# EAGLE library part M06 (library custom-connectors)
6-Way Connector
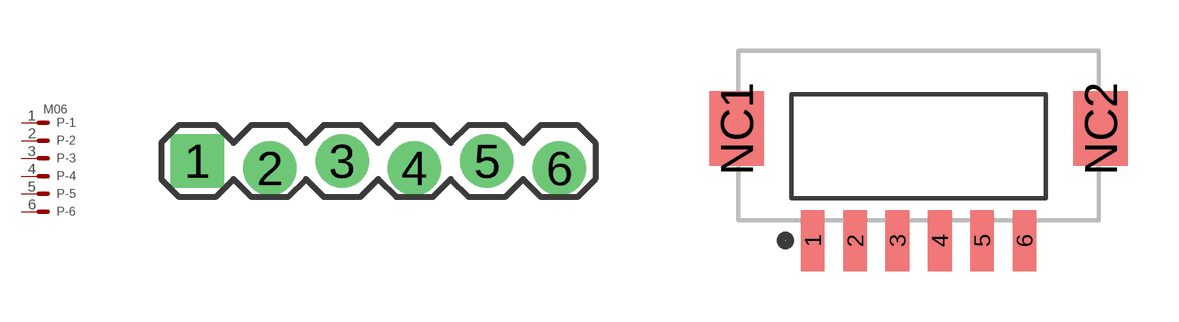
[diagram p3: symbol with the pads of 1X06_LOCK; footprints 1X06_LOCK, DF13A-6P-1.25H]

Designator prefix P; gates -1=MV -2=M -3=M -4=M -5=M -6=M

## M06_SIP  [1X06_LOCK]
1  -1:S  pas
2  -2:S  pas
3  -3:S  pas
4  -4:S  pas
5  -5:S  pas
6  -6:S  pas

## M06_DF13H (DIGI-KEY: H3371-ND; MOUSER: 798-DF13A6P125H20)  [DF13A-6P-1.25H]
Pads as for 1X06_LOCK

## M06_SMT_1.27 (DIGI-KEY: S5712-ND)  [NPPC032KFMS-RC]
Pads as for 1X06_LOCK

## M06_DF13V (DIGI-KEY: H3436-ND; MOUSER: 798-DF13C6P125V50)  [DF13C-6P-1.25V]
Pads as for 1X06_LOCK

## M06_SMT_2.54 (DIGI-KEY: 3M9488TR-ND)  [961106-6300-AR-PR]
Pads as for 1X06_LOCK

## Footprint 1X06_LOCK (pad centres in mm)
drill 1.016 pad 1.88 square: 1 0,0
drill 1.016 pad 1.88: 2 2.54,-0.254; 3 5.08,0; 4 7.62,-0.254; 5 10.16,0; 6 12.7,-0.254

## Footprint DF13A-6P-1.25H (pad centres in mm)
smd 0.7 x 1.8: 1 -3.125,0; 2 -1.875,0; 3 -0.625,0; 4 0.625,0; 5 1.875,0; 6 3.125,0
smd 1.6 x 2.2: NC1 -5.375,3.3; NC2 5.375,3.3

## Footprint NPPC032KFMS-RC (pad centres in mm)
smd 1 x 2: 1 -2.54,-3.9; 2 -2.54,3.9; 3 0,-3.9; 4 0,3.9; 5 2.54,-3.9; 6 2.54,3.9
hole 0.95 at -1.27,0
hole 0.95 at 1.27,0

## Footprint DF13C-6P-1.25V (pad centres in mm)
smd 0.7 x 1.8: 1 3.125,0; 2 1.875,0; 3 0.625,0; 4 -0.625,0; 5 -1.875,0; 6 -3.125,0
smd 1.6 x 2.2: NC1 -5.475,2.7; NC2 5.475,2.7

## Footprint 961106-6300-AR-PR (pad centres in mm)
smd 1.27 x 3.6: 1 0,1.95; 2 2.54,-1.95; 3 5.08,1.95; 4 7.62,-1.95; 5 10.16,1.95; 6 12.7,-1.95